# Altium footprint library adafruit.PCBLIB: 624 footprints (part 3 of 39)
Each footprint in its own frame and in the unit in brackets; x right, y up, seen from the top. Pads: shape width x height; smd on the part's side, far side on the other; paste and mask are expansions set on the pad; w line width, h text height; cw(c..) or ccw(c..) is an arc to the next point about the centre after c.
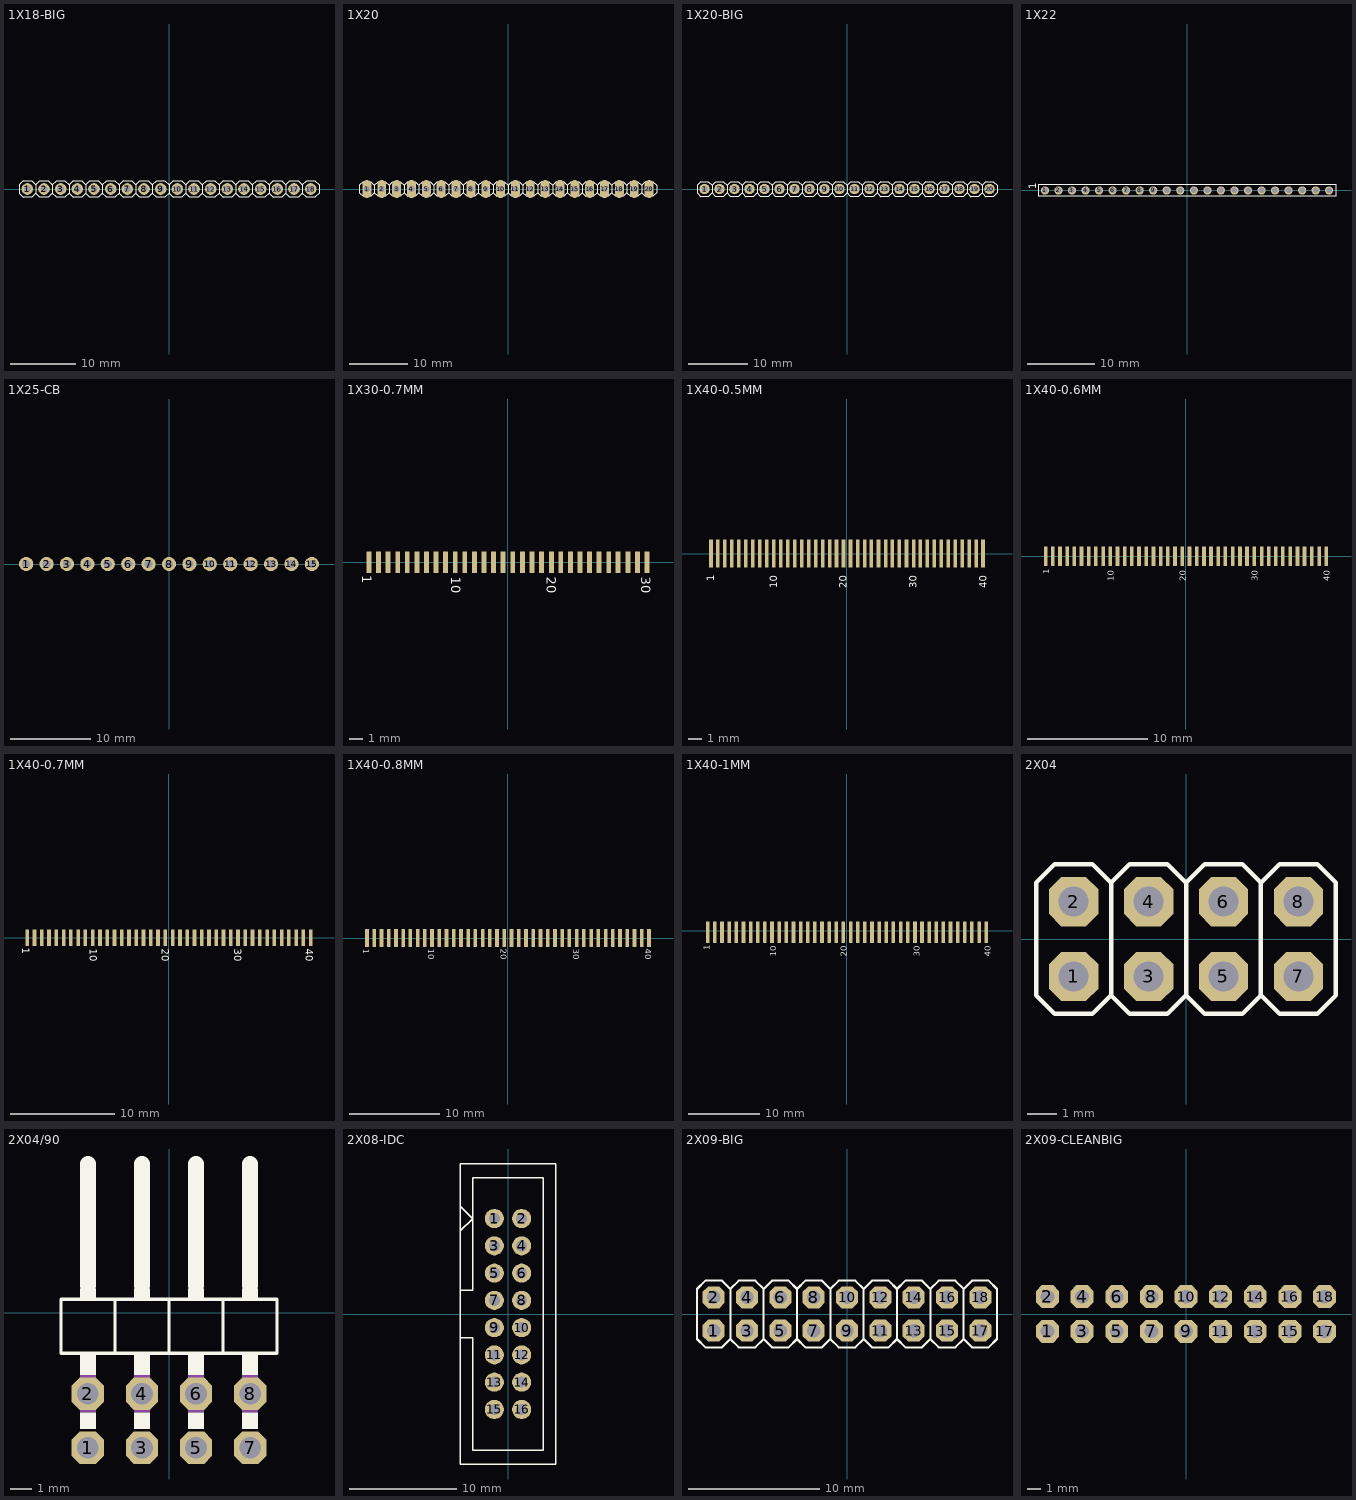
[diagram p2: the footprints below, top view; thin cyan lines are the x and y axes]

## 1X18-BIG [mil]
pads (18):
  round 70 hole 40: 1(-850,0) 2(-750,0) 3(-650,0) 4(-550,0) 5(-450,0) 6(-350,0) 7(-250,0) 8(-150,0) 9(-50,0) 10(50,0) 11(150,0) 12(250,0) 13(350,0) 14(450,0) 15(550,0) 16(650,0) 17(750,0) 18(850,0)
Top Overlay:
  lines w6: -800,-25 -800,25 ; -800,-25 -825,-50 -875,-50 -900,-25 -900,25 -875,50 -825,50 -800,25 ; -800,-25 -775,-50 -725,-50 -700,-25 ; -800,25 -775,50 -725,50 -700,25 ; -700,-25 -675,-50 -625,-50 -600,-25 ; -700,-25 -700,25 ; -700,25 -675,50 -625,50 -600,25 ; -600,-25 -600,25 ; -600,-25 -575,-50 -525,-50 -500,-25 ; -600,25 -575,50 -525,50 -500,25 ; -500,-25 -500,25 ; -500,-25 -475,-50 -425,-50 -400,-25 ; -500,25 -475,50 -425,50 -400,25 ; -400,-25 -375,-50 -325,-50 -300,-25 ; -400,-25 -400,25 ; -400,25 -375,50 -325,50 -300,25 ; -300,-25 -300,25 ; -300,-25 -275,-50 -225,-50 -200,-25 ; -300,25 -275,50 -225,50 -200,25 ; -200,-25 -200,25 ; -200,-25 -175,-50 -125,-50 -100,-25 ; -200,25 -175,50 -125,50 -100,25 ; -100,-25 -75,-50 -25,-50 0,-25 ; -100,-25 -100,25 ; -100,25 -75,50 -25,50 0,25 ; 0,-25 0,25 ; 0,-25 25,-50 75,-50 100,-25 ; 0,25 25,50 75,50 100,25 ; 100,-25 100,25 ; 100,-25 125,-50 175,-50 200,-25 ; 100,25 125,50 175,50 200,25 ; 200,-25 225,-50 275,-50 300,-25 ; 200,-25 200,25 ; 200,25 225,50 275,50 300,25 ; 300,-25 300,25 ; 300,-25 325,-50 375,-50 400,-25 ; 300,25 325,50 375,50 400,25 ; 400,-25 400,25 ; 400,-25 425,-50 475,-50 500,-25 ; 400,25 425,50 475,50 500,25 ; 500,-25 525,-50 575,-50 600,-25 ; 500,-25 500,25 ; 500,25 525,50 575,50 600,25 ; 600,-25 600,25 ; 600,-25 625,-50 675,-50 700,-25 ; 600,25 625,50 675,50 700,25 ; 700,-25 700,25 ; 700,-25 725,-50 775,-50 800,-25 ; 700,25 725,50 775,50 800,25 ; 800,-25 800,25 ; 800,-25 825,-50 875,-50 900,-25 900,25 875,50 825,50 800,25
Mechanical 16:
  rectangle: 740,-10 760,10
  rectangle: 640,-10 660,10
  rectangle: 540,-10 560,10
  rectangle: 440,-10 460,10
  rectangle: 340,-10 360,10
  rectangle: 240,-10 260,10
  rectangle: 140,-10 160,10
  rectangle: 40,-10 60,10
  rectangle: -60,-10 -40,10
  rectangle: -160,-10 -140,10
  rectangle: -260,-10 -240,10
  rectangle: -360,-10 -340,10
  rectangle: -460,-10 -440,10
  rectangle: -560,-10 -540,10
  rectangle: -660,-10 -640,10
  rectangle: -760,-10 -740,10
  rectangle: -860,-10 -840,10
  rectangle: 840,-10 860,10

## 1X20 [mil]
pads (20):
  oval 60x120 hole 40: 1(-950,0) 2(-850,0) 3(-750,0) 4(-650,0) 5(-550,0) 6(-450,0) 7(-350,0) 8(-250,0) 9(-150,0) 10(-50,0) 11(50,0) 12(150,0) 13(250,0) 14(350,0) 15(450,0) 16(550,0) 17(650,0) 18(750,0) 19(850,0) 20(950,0)
Top Overlay:
  lines w6: -900,-25 -900,25 ; -900,-25 -925,-50 -975,-50 -1000,-25 -1000,25 -975,50 -925,50 -900,25 ; -900,-25 -875,-50 -825,-50 -800,-25 ; -900,25 -875,50 -825,50 -800,25 ; -800,-25 -775,-50 -725,-50 -700,-25 ; -800,-25 -800,25 ; -800,25 -775,50 -725,50 -700,25 ; -700,-25 -700,25 ; -700,-25 -675,-50 -625,-50 -600,-25 ; -700,25 -675,50 -625,50 -600,25 ; -600,-25 -600,25 ; -600,-25 -575,-50 -525,-50 -500,-25 ; -600,25 -575,50 -525,50 -500,25 ; -500,-25 -475,-50 -425,-50 -400,-25 ; -500,-25 -500,25 ; -500,25 -475,50 -425,50 -400,25 ; -400,-25 -400,25 ; -400,-25 -375,-50 -325,-50 -300,-25 ; -400,25 -375,50 -325,50 -300,25 ; -300,-25 -300,25 ; -300,-25 -275,-50 -225,-50 -200,-25 ; -300,25 -275,50 -225,50 -200,25 ; -200,-25 -175,-50 -125,-50 -100,-25 ; -200,-25 -200,25 ; -200,25 -175,50 -125,50 -100,25 ; -100,-25 -100,25 ; -100,-25 -75,-50 -25,-50 0,-25 ; -100,25 -75,50 -25,50 0,25 ; 0,-25 0,25 ; 0,-25 25,-50 75,-50 100,-25 ; 0,25 25,50 75,50 100,25 ; 100,-25 125,-50 175,-50 200,-25 ; 100,-25 100,25 ; 100,25 125,50 175,50 200,25 ; 200,-25 200,25 ; 200,-25 225,-50 275,-50 300,-25 ; 200,25 225,50 275,50 300,25 ; 300,-25 300,25 ; 300,-25 325,-50 375,-50 400,-25 ; 300,25 325,50 375,50 400,25 ; 400,-25 425,-50 475,-50 500,-25 ; 400,-25 400,25 ; 400,25 425,50 475,50 500,25 ; 500,-25 500,25 ; 500,-25 525,-50 575,-50 600,-25 ; 500,25 525,50 575,50 600,25 ; 600,-25 600,25 ; 600,-25 625,-50 675,-50 700,-25 ; 600,25 625,50 675,50 700,25 ; 700,-25 725,-50 775,-50 800,-25 ; 700,-25 700,25 ; 700,25 725,50 775,50 800,25 ; 800,-25 800,25 ; 800,-25 825,-50 875,-50 900,-25 ; 800,25 825,50 875,50 900,25 ; 900,-25 900,25 ; 900,-25 925,-50 975,-50 1000,-25 1000,25 975,50 925,50 900,25
Mechanical 16:
  rectangle: 840,-10 860,10
  rectangle: 740,-10 760,10
  rectangle: 640,-10 660,10
  rectangle: 540,-10 560,10
  rectangle: 440,-10 460,10
  rectangle: 340,-10 360,10
  rectangle: 240,-10 260,10
  rectangle: 140,-10 160,10
  rectangle: 40,-10 60,10
  rectangle: -60,-10 -40,10
  rectangle: -160,-10 -140,10
  rectangle: -260,-10 -240,10
  rectangle: -360,-10 -340,10
  rectangle: -460,-10 -440,10
  rectangle: -560,-10 -540,10
  rectangle: -660,-10 -640,10
  rectangle: -760,-10 -740,10
  rectangle: -860,-10 -840,10
  rectangle: -960,-10 -940,10
  rectangle: 940,-10 960,10

## 1X20-BIG [mil]
pads (20):
  round 70 hole 40: 1(-950,0) 2(-850,0) 3(-750,0) 4(-650,0) 5(-550,0) 6(-450,0) 7(-350,0) 8(-250,0) 9(-150,0) 10(-50,0) 11(50,0) 12(150,0) 13(250,0) 14(350,0) 15(450,0) 16(550,0) 17(650,0) 18(750,0) 19(850,0) 20(950,0)
Top Overlay:
  lines w6: -900,-25 -900,25 ; -900,-25 -925,-50 -975,-50 -1000,-25 -1000,25 -975,50 -925,50 -900,25 ; -900,-25 -875,-50 -825,-50 -800,-25 ; -900,25 -875,50 -825,50 -800,25 ; -800,-25 -775,-50 -725,-50 -700,-25 ; -800,-25 -800,25 ; -800,25 -775,50 -725,50 -700,25 ; -700,-25 -700,25 ; -700,-25 -675,-50 -625,-50 -600,-25 ; -700,25 -675,50 -625,50 -600,25 ; -600,-25 -600,25 ; -600,-25 -575,-50 -525,-50 -500,-25 ; -600,25 -575,50 -525,50 -500,25 ; -500,-25 -475,-50 -425,-50 -400,-25 ; -500,-25 -500,25 ; -500,25 -475,50 -425,50 -400,25 ; -400,-25 -400,25 ; -400,-25 -375,-50 -325,-50 -300,-25 ; -400,25 -375,50 -325,50 -300,25 ; -300,-25 -300,25 ; -300,-25 -275,-50 -225,-50 -200,-25 ; -300,25 -275,50 -225,50 -200,25 ; -200,-25 -175,-50 -125,-50 -100,-25 ; -200,-25 -200,25 ; -200,25 -175,50 -125,50 -100,25 ; -100,-25 -100,25 ; -100,-25 -75,-50 -25,-50 0,-25 ; -100,25 -75,50 -25,50 0,25 ; 0,-25 0,25 ; 0,-25 25,-50 75,-50 100,-25 ; 0,25 25,50 75,50 100,25 ; 100,-25 125,-50 175,-50 200,-25 ; 100,-25 100,25 ; 100,25 125,50 175,50 200,25 ; 200,-25 200,25 ; 200,-25 225,-50 275,-50 300,-25 ; 200,25 225,50 275,50 300,25 ; 300,-25 300,25 ; 300,-25 325,-50 375,-50 400,-25 ; 300,25 325,50 375,50 400,25 ; 400,-25 425,-50 475,-50 500,-25 ; 400,-25 400,25 ; 400,25 425,50 475,50 500,25 ; 500,-25 500,25 ; 500,-25 525,-50 575,-50 600,-25 ; 500,25 525,50 575,50 600,25 ; 600,-25 600,25 ; 600,-25 625,-50 675,-50 700,-25 ; 600,25 625,50 675,50 700,25 ; 700,-25 725,-50 775,-50 800,-25 ; 700,-25 700,25 ; 700,25 725,50 775,50 800,25 ; 800,-25 800,25 ; 800,-25 825,-50 875,-50 900,-25 ; 800,25 825,50 875,50 900,25 ; 900,-25 900,25 ; 900,-25 925,-50 975,-50 1000,-25 1000,25 975,50 925,50 900,25
Mechanical 16:
  rectangle: 840,-10 860,10
  rectangle: 740,-10 760,10
  rectangle: 640,-10 660,10
  rectangle: 540,-10 560,10
  rectangle: 440,-10 460,10
  rectangle: 340,-10 360,10
  rectangle: 240,-10 260,10
  rectangle: 140,-10 160,10
  rectangle: 40,-10 60,10
  rectangle: -60,-10 -40,10
  rectangle: -160,-10 -140,10
  rectangle: -260,-10 -240,10
  rectangle: -360,-10 -340,10
  rectangle: -460,-10 -440,10
  rectangle: -560,-10 -540,10
  rectangle: -660,-10 -640,10
  rectangle: -760,-10 -740,10
  rectangle: -860,-10 -840,10
  rectangle: -960,-10 -940,10
  rectangle: 940,-10 960,10

## 1X22 [mil]
pads (22):
  round 48 hole 32: 1(-826.77,0) 2(-748.03,0) 3(-669.29,0) 4(-590.55,0) 5(-511.81,0) 6(-433.07,0) 7(-354.33,0) 8(-275.59,0) 9(-196.85,0) 10(-118.11,0) 11(-39.37,0) 12(40,0) 13(119,0) 14(197,0) 15(276,0) 16(355,0) 17(434,0) 18(512,0) 19(591,0) 20(670,0) 21(749,0) 22(827,0)
Top Overlay:
  lines w5: -866.14,-31.89 867,-31.89 867,32 -866.14,32 -866.14,-31.89
  text "1" at -878.74,6 h42.5

## 1X25-CB [mil]
pads (15):
  round 70 hole 40: 1(-700,0) 2(-600,0) 3(-500,0) 4(-400,0) 5(-300,0) 6(-200,0) 7(-100,0) 8(0,0) 9(100,0) 10(200,0) 11(300,0) 12(400,0) 13(500,0) 14(600,0) 15(700,0)

## 1X30-0.7MM [mil]
pads (30):
  rect 14x63 smd: 1(-399.61,0) 2(-372.05,0) 3(-344.49,0) 4(-316.93,0) 5(-289.37,0) 6(-261.81,0) 7(-234.25,0) 8(-206.69,0) 9(-179.13,0) 10(-151.57,0) 11(-124.02,0) 12(-96.46,0) 13(-68.9,0) 14(-41.34,0) 15(-13.78,0) 16(14,0) 17(42,0) 18(69,0) 19(97,0) 20(125,0) 21(152,0) 22(180,0) 23(207,0) 24(235,0) 25(262,0) 26(290,0) 27(317,0) 28(345,0) 29(373,0) 30(400,0)
Top Overlay:
  text "1" at -419.29,-37.4 h27.2
  text "10" at -163.39,-41.34 h27.2
  text "20" at 111,-41.34 h27.2
  text "30" at 384,-41.34 h27.2

## 1X40-0.5MM [mil]
pads (40):
  rect 10x79 smd: 1(-383.86,0) 2(-364.17,0) 3(-344.49,0) 4(-324.8,0) 5(-305.12,0) 6(-285.43,0) 7(-265.75,0) 8(-246.06,0) 9(-226.38,0) 10(-206.69,0) 11(-187.01,0) 12(-167.32,0) 13(-147.64,0) 14(-127.95,0) 15(-108.27,0) 16(-88.58,0) 17(-68.9,0) 18(-49.21,0) 19(-29.53,0) 20(-9.84,0) 21(10,0) 22(30,0) 23(50,0) 24(69,0) 25(89,0) 26(109,0) 27(128,0) 28(148,0) 29(168,0) 30(188,0) 31(207,0) 32(227,0) 33(247,0) 34(266,0) 35(286,0) 36(306,0) 37(325,0) 38(345,0) 39(365,0) 40(384,0)
Top Overlay:
  text "1" at -374.02,-78.74 h20.4
  text "40" at 394,-98.43 h20.4
  text "20" at 0,-98.43 h20.4
  text "10" at -196.85,-98.43 h20.4
  text "30" at 197,-98.43 h20.4

## 1X40-0.6MM [mil]
pads (40):
  rect 12x63 smd: 1(-460.63,0) 2(-437.01,0) 3(-413.39,0) 4(-389.76,0) 5(-366.14,0) 6(-342.52,0) 7(-318.9,0) 8(-295.28,0) 9(-271.65,0) 10(-248.03,0) 11(-224.41,0) 12(-200.79,0) 13(-177.17,0) 14(-153.54,0) 15(-129.92,0) 16(-106.3,0) 17(-82.68,0) 18(-59.06,0) 19(-35.43,0) 20(-11.81,0) 21(12,0) 22(36,0) 23(60,0) 24(83,0) 25(107,0) 26(130,0) 27(154,0) 28(178,0) 29(201,0) 30(225,0) 31(249,0) 32(272,0) 33(296,0) 34(319,0) 35(343,0) 36(367,0) 37(390,0) 38(414,0) 39(438,0) 40(461,0)
Top Overlay:
  text "1" at -448.82,-59.06 h20.4
  text "10" at -236.22,-82.68 h20.4
  text "40" at 473,-82.68 h20.4
  text "20" at 0,-82.68 h20.4
  text "30" at 237,-82.68 h20.4

## 1X40-0.7MM [mil]
pads (40):
  rect 14x63 smd: 1(-537.4,0) 2(-509.84,0) 3(-482.28,0) 4(-454.72,0) 5(-427.17,0) 6(-399.61,0) 7(-372.05,0) 8(-344.49,0) 9(-316.93,0) 10(-289.37,0) 11(-261.81,0) 12(-234.25,0) 13(-206.69,0) 14(-179.13,0) 15(-151.57,0) 16(-124.02,0) 17(-96.46,0) 18(-68.9,0) 19(-41.34,0) 20(-13.78,0) 21(14,0) 22(42,0) 23(69,0) 24(97,0) 25(125,0) 26(152,0) 27(180,0) 28(207,0) 29(235,0) 30(262,0) 31(290,0) 32(317,0) 33(345,0) 34(373,0) 35(400,0) 36(428,0) 37(455,0) 38(483,0) 39(510,0) 40(538,0)
Top Overlay:
  text "1" at -557.09,-37.4 h27.2
  text "10" at -301.18,-41.34 h27.2
  text "40" at 520,-41.34 h27.2
  text "20" at -27.56,-41.34 h27.2
  text "30" at 247,-41.34 h27.2

## 1X40-0.8MM [mil]
pads (40):
  rect 16x79 smd: 1(-614.17,0) 2(-582.68,0) 3(-551.18,0) 4(-519.68,0) 5(-488.19,0) 6(-456.69,0) 7(-425.2,0) 8(-393.7,0) 9(-362.2,0) 10(-330.71,0) 11(-299.21,0) 12(-267.72,0) 13(-236.22,0) 14(-204.72,0) 15(-173.23,0) 16(-141.73,0) 17(-110.24,0) 18(-78.74,0) 19(-47.24,0) 20(-15.75,0) 21(16,0) 22(48,0) 23(79,0) 24(111,0) 25(142,0) 26(174,0) 27(205,0) 28(237,0) 29(268,0) 30(300,0) 31(331,0) 32(363,0) 33(394,0) 34(426,0) 35(457,0) 36(489,0) 37(520,0) 38(552,0) 39(583,0) 40(615,0)
Top Overlay:
  text "1" at -629.92,-47.24 h27.2
  text "10" at -346.46,-47.24 h27.2
  text "20" at -31.5,-47.24 h27.2
  text "40" at 599,-47.24 h27.2
  text "30" at 284,-47.24 h27.2

## 1X40-1MM [mil]
pads (40):
  rect 20x119 smd: 1(-767.72,-6.69) 2(-728.35,-6.69) 3(-688.98,-6.69) 4(-649.61,-6.69) 5(-610.24,-6.69) 6(-570.87,-6.69) 7(-531.5,-6.69) 8(-492.13,-6.69) 9(-452.76,-6.69) 10(-413.39,-6.69) 11(-374.02,-6.69) 12(-334.65,-6.69) 13(-295.28,-6.69) 14(-255.91,-6.69) 15(-216.54,-6.69) 16(-177.17,-6.69) 17(-137.8,-6.69) 18(-98.43,-6.69) 19(-59.06,-6.69) 20(-19.68,-6.69) 21(20,-6.69) 22(60,-6.69) 23(99,-6.69) 24(138,-6.69) 25(178,-6.69) 26(217,-6.69) 27(256,-6.69) 28(296,-6.69) 29(335,-6.69) 30(375,-6.69) 31(414,-6.69) 32(453,-6.69) 33(493,-6.69) 34(532,-6.69) 35(571,-6.69) 36(611,-6.69) 37(650,-6.69) 38(689,-6.69) 39(729,-6.69) 40(768,-6.69)
Top Overlay:
  text "1" at -755.91,-106.3 h34
  text "10" at -389.76,-141.73 h34
  text "40" at 792,-141.73 h34
  text "20" at 0,-141.73 h34
  text "30" at 402,-141.73 h34

## 2X04 [mil]
pads (8):
  oct 66x66 hole 40: 1(-150,-50) 2(-150,50) 3(-50,-50) 4(-50,50) 5(50,-50) 6(50,50) 7(150,-50) 8(150,50)
Top Overlay:
  lines w6: -100,-75 -125,-100 -175,-100 -200,-75 -200,75 -175,100 -125,100 -100,75 ; -100,-75 -75,-100 -25,-100 0,-75 ; -100,-75 -100,75 ; -100,75 -75,100 -25,100 0,75 ; 0,-75 25,-100 75,-100 100,-75 ; 0,-75 0,75 ; 0,75 25,100 75,100 100,75 ; 100,-75 100,75 ; 100,-75 125,-100 175,-100 200,-75 200,75 175,100 125,100 100,75
Mechanical 16:
  rectangle: -160,-60 -140,-40
  rectangle: -160,40 -140,60
  rectangle: -60,40 -40,60
  rectangle: -60,-60 -40,-40
  rectangle: 40,40 60,60
  rectangle: 40,-60 60,-40
  rectangle: 140,40 160,60
  rectangle: 140,-60 160,-40

## 2X04/90 [mil]
pads (8):
  oct 60x60 hole 40: 1(-150,-250) 2(-150,-150) 3(-50,-250) 4(-50,-150) 5(50,-250) 6(50,-150) 7(150,-250) 8(150,-150)
Top Overlay:
  rectangle: -165,25 -135,45
  rectangle: -65,25 -35,45
  rectangle: 35,25 65,45
  rectangle: 135,25 165,45
  rectangle: -165,-115 -135,-75
  rectangle: -65,-115 -35,-75
  rectangle: -165,-215 -135,-185
  rectangle: -65,-215 -35,-185
  rectangle: 35,-115 65,-75
  rectangle: 135,-115 165,-75
  rectangle: 35,-215 65,-185
  rectangle: 135,-215 165,-185
  lines w6: -100,-75 -200,-75 -200,25 -100,25 ; -100,-75 -100,25 ; -100,-75 0,-75 ; -100,25 0,25 ; 0,-75 0,25 ; 0,-75 100,-75 ; 0,25 100,25 ; 100,-75 100,25 ; 100,-75 200,-75 200,25 100,25
  lines w30: -150,50 -150,275 ; -50,50 -50,275 ; 50,50 50,275 ; 150,50 150,275
Mechanical 16:
  rectangle: -165,-185 -135,-115
  rectangle: -65,-185 -35,-115
  rectangle: 35,-185 65,-115
  rectangle: 135,-185 165,-115

## 2X08-IDC [mil]
pads (16):
  round 70 hole 40: 1(-50,350) 2(50,350) 3(-50,250) 4(50,250) 5(-50,150) 6(50,150) 7(-50,50) 8(50,50) 9(-50,-50) 10(50,-50) 11(-50,-150) 12(50,-150) 13(-50,-250) 14(50,-250) 15(-50,-350) 16(50,-350)
Top Overlay:
  lines w5: -175,-87.5 -175,-550 175,-550 175,550 -175,550 -175,395 ; -175,-87.5 -130,-87.5 -130,-500 130,-500 130,500 -130,500 -130,350 ; -175,-87.5 -175,88 ; -175,88 -175,305 ; -175,88 -130,88 -130,350 ; -175,305 -175,395 ; -175,305 -130,350 ; -175,395 -130,350

## 2X09-BIG [mil]
pads (18):
  oct 66x66 hole 40: 1(-400,-50) 2(-400,50) 3(-300,-50) 4(-300,50) 5(-200,-50) 6(-200,50) 7(-100,-50) 8(-100,50) 9(0,-50) 10(0,50) 11(100,-50) 12(100,50) 13(200,-50) 14(200,50) 15(300,-50) 16(300,50) 17(400,-50) 18(400,50)
Top Overlay:
  lines w6: -350,-75 -375,-100 -425,-100 -450,-75 -450,75 -425,100 -375,100 -350,75 ; -350,-75 -325,-100 -275,-100 -250,-75 ; -350,-75 -350,75 ; -350,75 -325,100 -275,100 -250,75 ; -250,-75 -225,-100 -175,-100 -150,-75 ; -250,-75 -250,75 ; -250,75 -225,100 -175,100 -150,75 ; -150,-75 -125,-100 -75,-100 -50,-75 ; -150,-75 -150,75 ; -150,75 -125,100 -75,100 -50,75 ; -50,-75 -25,-100 25,-100 50,-75 ; -50,-75 -50,75 ; -50,75 -25,100 25,100 50,75 ; 50,-75 75,-100 125,-100 150,-75 ; 50,-75 50,75 ; 50,75 75,100 125,100 150,75 ; 150,-75 175,-100 225,-100 250,-75 ; 150,-75 150,75 ; 150,75 175,100 225,100 250,75 ; 250,-75 275,-100 325,-100 350,-75 ; 250,-75 250,75 ; 250,75 275,100 325,100 350,75 ; 350,-75 350,75 ; 350,-75 375,-100 425,-100 450,-75 450,75 425,100 375,100 350,75
Mechanical 16:
  rectangle: -410,-60 -390,-40
  rectangle: -410,40 -390,60
  rectangle: -310,40 -290,60
  rectangle: -310,-60 -290,-40
  rectangle: -210,40 -190,60
  rectangle: -210,-60 -190,-40
  rectangle: -110,40 -90,60
  rectangle: -10,40 10,60
  rectangle: 90,40 110,60
  rectangle: -110,-60 -90,-40
  rectangle: -10,-60 10,-40
  rectangle: 90,-60 110,-40
  rectangle: 190,40 210,60
  rectangle: 190,-60 210,-40
  rectangle: 290,40 310,60
  rectangle: 290,-60 310,-40
  rectangle: 390,40 410,60
  rectangle: 390,-60 410,-40

## 2X09-CLEANBIG [mil]
pads (18):
  oct 66x66 hole 40: 1(-400,-50) 2(-400,50) 3(-300,-50) 4(-300,50) 5(-200,-50) 6(-200,50) 7(-100,-50) 8(-100,50) 9(0,-50) 10(0,50) 11(100,-50) 12(100,50) 13(200,-50) 14(200,50) 15(300,-50) 16(300,50) 17(400,-50) 18(400,50)
Mechanical 16:
  rectangle: -410,-60 -390,-40
  rectangle: -410,40 -390,60
  rectangle: -310,40 -290,60
  rectangle: -310,-60 -290,-40
  rectangle: -210,40 -190,60
  rectangle: -210,-60 -190,-40
  rectangle: -110,40 -90,60
  rectangle: -10,40 10,60
  rectangle: 90,40 110,60
  rectangle: -110,-60 -90,-40
  rectangle: -10,-60 10,-40
  rectangle: 90,-60 110,-40
  rectangle: 190,40 210,60
  rectangle: 190,-60 210,-40
  rectangle: 290,40 310,60
  rectangle: 290,-60 310,-40
  rectangle: 390,40 410,60
  rectangle: 390,-60 410,-40